# EAGLE library part 418117170905 (library Wurth_Elektronik_Electromechanic_Switch_rev17b)
2.54 mm compact THT with flat actuator WS-DITV, 5 Pole <http://katalog.we-online.de/media/images/v2/Family_WS-DITV_4181171709xx.jpg> Details see: http://katalog.we-online.de/en/em/DITV_2_54_COMPACT_THT_WITH_FLAT_ACTUATOR 2015 (C) Wurth Elektroni
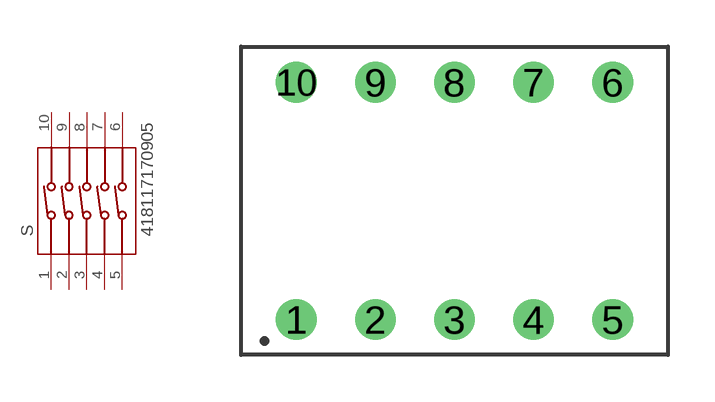
[diagram p44: symbol with the pads of 418117170905; footprint 418117170905]

Designator prefix S

## 418117170905  [418117170905]
1  1  pas
2  2  pas
3  3  pas
4  4  pas
5  5  pas
6  6  pas
7  7  pas
8  8  pas
9  9  pas
10  10  pas

## Footprint 418117170905 (pad centres in mm)
WS-BS 2.54 mm compact THT Dip Switch with flat actuator, 5 Pole
drill 0.8: 1 -5.08,-3.81; 2 -2.54,-3.81; 3 0,-3.81; 4 2.54,-3.81; 5 5.08,-3.81; 6 5.08,3.81; 7 2.54,3.81; 8 0,3.81; 9 -2.54,3.81; 10 -5.08,3.81